# EAGLE library part HEF4051BT,653 (library HEF4051BT_653)
HEF4051B - 8-channel analog multiplexer/demultiplexer@en-us Source: Datasheet <https://assets.nexperia.com/documents/data-sheet/HEF4051B.pdf>
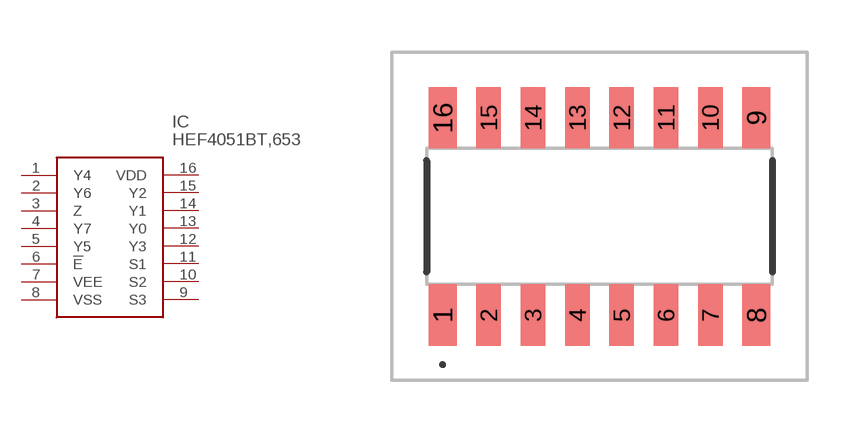
[diagram p0: symbol with the pads of HEF4051BT653; footprint HEF4051BT653]

Designator prefix IC

## HEF4051BT,653 (Description: HEF4051B - 8-channel analog multiplexer/demultiplexer@en-us; Height: 1.75mm; Manufacturer_Name: Nexperia; Manufacturer_Part_Number: HEF4051BT,653; Mouser_Part_Number: 771-HEF4051BTD-T; Mouser_Price-Stock: https://www.mouser.co.uk/ProductDetail/Nexperia/HEF4051BT653?qs=me8TqzrmIYWoNumSZf8zVw%3D%3D)  [HEF4051BT653]
1  Y4
2  Y6
3  Z
4  Y7
5  Y5
6  !E
7  VEE
8  VSS
9  S3
10  S2
11  S1
12  Y3
13  Y0
14  Y1
15  Y2
16  VDD

## Footprint HEF4051BT653 (pad centres in mm)
HEF4051BT,653-2
smd 0.8 x 1.75: 1 -4.495,-2.825; 8 4.495,-2.825; 9 4.495,2.825; 16 -4.495,2.825
smd 0.7 x 1.75: 2 -3.175,-2.825; 3 -1.905,-2.825; 4 -0.635,-2.825; 5 0.635,-2.825; 6 1.905,-2.825; 7 3.175,-2.825; 10 3.175,2.825; 11 1.905,2.825; 12 0.635,2.825; 13 -0.635,2.825; 14 -1.905,2.825; 15 -3.175,2.825